# Altium integrated library WE_WR-TBL_Spring Clamp System_7.50 mm_rev15a.IntLib: 11 symbols
Pins are listed as number, name and electrical type; pins without a type are passive.

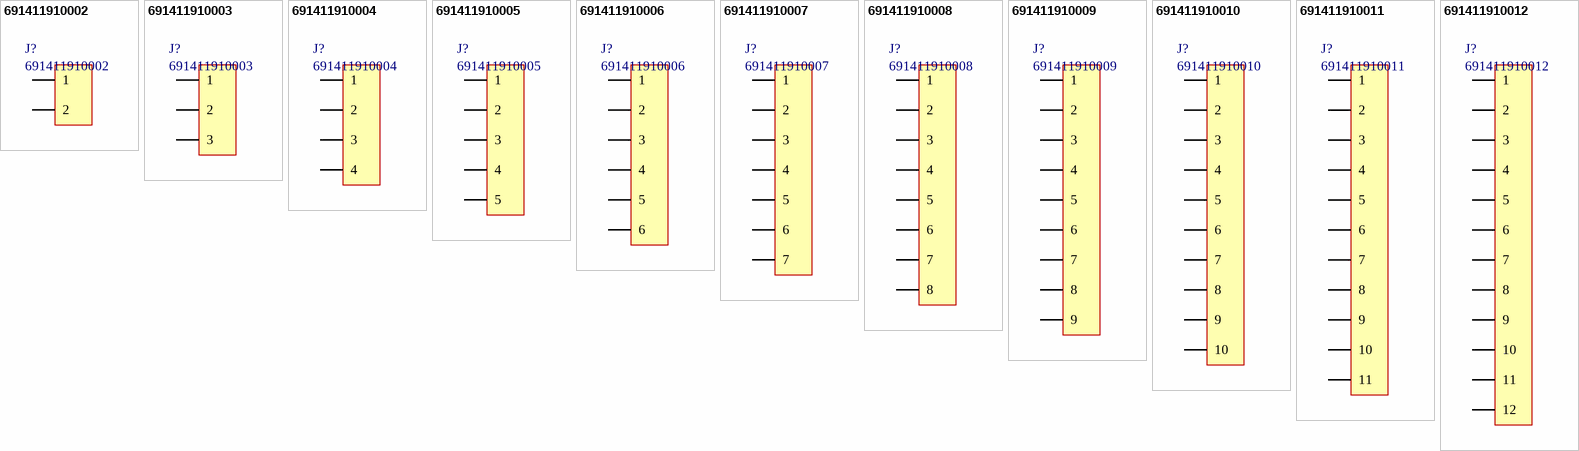
[diagram p0: symbols 691411910002 to 691411910012]

## 691411910002
designator J?
Horizontal Cable Entry Screwless, Serie 4119 - 7.5 mm; Manufacturer: Wurth Elektronik; ComponentLink1 Description: Manufacturer; ComponentLink2 Description: Datasheet; NoPins: 2; ComponentLink1 URL: http://www.we-online.com; ComponentLink2 URL: http://katalog.we-online.de/em/datasheet/6914119100xx.pdf; Created By: Baojun Chen; Created Date: 29.Aug.2015; PartNo: 691411910002
footprint 691411910002 (Serie 4119 - 7.50 mm _ 2 pins)
pins: 1, 2

## 691411910003
designator J?
Horizontal Cable Entry Screwless, Serie 4119 - 7.5 mm; Manufacturer: Wurth Elektronik; ComponentLink1 Description: Manufacturer; ComponentLink2 Description: Datasheet; NoPins: 3; ComponentLink1 URL: http://www.we-online.com; ComponentLink2 URL: http://katalog.we-online.de/em/datasheet/6914119100xx.pdf; Created By: Baojun Chen; Created Date: 29.Aug.2015; PartNo: 691411910003
footprint 691411910003 (Serie 4119 - 7.50 mm _ 3 pins)
pins: 1, 2, 3

## 691411910004
designator J?
Horizontal Cable Entry Screwless, Serie 4119 - 7.5 mm; Manufacturer: Wurth Elektronik; ComponentLink1 Description: Manufacturer; ComponentLink2 Description: Datasheet; NoPins: 4; ComponentLink1 URL: http://www.we-online.com; ComponentLink2 URL: http://katalog.we-online.de/em/datasheet/6914119100xx.pdf; Created By: Baojun Chen; Created Date: 29.Aug.2015; PartNo: 691411910004
footprint 691411910004 (Serie 4119 - 7.50 mm _ 4 pins)
pins: 1, 2, 3, 4

## 691411910005
designator J?
Horizontal Cable Entry Screwless, Serie 4119 - 7.5 mm; Manufacturer: Wurth Elektronik; ComponentLink1 Description: Manufacturer; ComponentLink2 Description: Datasheet; NoPins: 5; ComponentLink1 URL: http://www.we-online.com; ComponentLink2 URL: http://katalog.we-online.de/em/datasheet/6914119100xx.pdf; Created By: Baojun Chen; Created Date: 29.Aug.2015; PartNo: 691411910005
footprint 691411910005 (Serie 4119 - 7.50 mm _ 5 pins)
pins: 1, 2, 3, 4, 5

## 691411910006
designator J?
Horizontal Cable Entry Screwless, Serie 4119 - 7.5 mm; Manufacturer: Wurth Elektronik; ComponentLink1 Description: Manufacturer; ComponentLink2 Description: Datasheet; NoPins: 6; ComponentLink1 URL: http://www.we-online.com; ComponentLink2 URL: http://katalog.we-online.de/em/datasheet/6914119100xx.pdf; Created By: Baojun Chen; Created Date: 29.Aug.2015; PartNo: 691411910006
footprint 691411910006 (Serie 4119 - 7.50 mm _ 6 pins)
pins: 1, 2, 3, 4, 5, 6

## 691411910007
designator J?
Horizontal Cable Entry Screwless, Serie 4119 - 7.5 mm; Manufacturer: Wurth Elektronik; ComponentLink1 Description: Manufacturer; ComponentLink2 Description: Datasheet; NoPins: 7; ComponentLink1 URL: http://www.we-online.com; ComponentLink2 URL: http://katalog.we-online.de/em/datasheet/6914119100xx.pdf; Created By: Baojun Chen; Created Date: 29.Aug.2015; PartNo: 691411910007
footprint 691411910007 (Serie 4119 - 7.50 mm _ 7 pins)
pins: 1, 2, 3, 4, 5, 6, 7

## 691411910008
designator J?
Horizontal Cable Entry Screwless, Serie 4119 - 7.5 mm; Manufacturer: Wurth Elektronik; ComponentLink1 Description: Manufacturer; ComponentLink2 Description: Datasheet; NoPins: 8; ComponentLink1 URL: http://www.we-online.com; ComponentLink2 URL: http://katalog.we-online.de/em/datasheet/6914119100xx.pdf; Created By: Baojun Chen; Created Date: 29.Aug.2015; PartNo: 691411910008
footprint 691411910008 (Serie 4119 - 7.50 mm _ 8 pins)
pins: 1, 2, 3, 4, 5, 6, 7, 8

## 691411910009
designator J?
Horizontal Cable Entry Screwless, Serie 4119 - 7.5 mm; Manufacturer: Wurth Elektronik; ComponentLink1 Description: Manufacturer; ComponentLink2 Description: Datasheet; NoPins: 9; ComponentLink1 URL: http://www.we-online.com; ComponentLink2 URL: http://katalog.we-online.de/em/datasheet/6914119100xx.pdf; Created By: Baojun Chen; Created Date: 29.Aug.2015; PartNo: 691411910009
footprint 691411910009 (Serie 4119 - 7.50 mm _ 9 pins)
pins: 1, 2, 3, 4, 5, 6, 7, 8, 9

## 691411910010
designator J?
Horizontal Cable Entry Screwless, Serie 4119 - 7.5 mm; Manufacturer: Wurth Elektronik; ComponentLink1 Description: Manufacturer; ComponentLink2 Description: Datasheet; NoPins: 10; ComponentLink1 URL: http://www.we-online.com; ComponentLink2 URL: http://katalog.we-online.de/em/datasheet/6914119100xx.pdf; Created By: Baojun Chen; Created Date: 29.Aug.2015; PartNo: 691411910010
footprint 691411910010 (Serie 4119 - 7.50 mm _ 10 pins)
pins: 1, 2, 3, 4, 5, 6, 7, 8, 9, 10

## 691411910011
designator J?
Horizontal Cable Entry Screwless, Serie 4119 - 7.5 mm; Manufacturer: Wurth Elektronik; ComponentLink1 Description: Manufacturer; ComponentLink2 Description: Datasheet; NoPins: 11; ComponentLink1 URL: http://www.we-online.com; ComponentLink2 URL: http://katalog.we-online.de/em/datasheet/6914119100xx.pdf; Created By: Baojun Chen; Created Date: 29.Aug.2015; PartNo: 691411910011
footprint 691411910011 (Serie 4119 - 7.50 mm _ 11 pins)
pins: 1, 2, 3, 4, 5, 6, 7, 8, 9, 10, 11

## 691411910012
designator J?
Horizontal Cable Entry Screwless, Serie 4119 - 7.5 mm; Manufacturer: Wurth Elektronik; ComponentLink1 Description: Manufacturer; ComponentLink2 Description: Datasheet; NoPins: 12; ComponentLink1 URL: http://www.we-online.com; ComponentLink2 URL: http://katalog.we-online.de/em/datasheet/6914119100xx.pdf; Created By: Baojun Chen; Created Date: 29.Aug.2015; PartNo: 691411910012
footprint 691411910012 (Serie 4119 - 7.50 mm _ 12 pins)
pins: 1, 2, 3, 4, 5, 6, 7, 8, 9, 10, 11, 12